# Altium footprint library USB_C_mid_mount.PcbLib: 1 footprints
Each footprint in its own frame and in the unit in brackets; x right, y up, seen from the top. Pads: shape width x height; smd on the part's side, far side on the other; paste and mask are expansions set on the pad; w line width, h text height; cw(c..) or ccw(c..) is an arc to the next point about the centre after c.
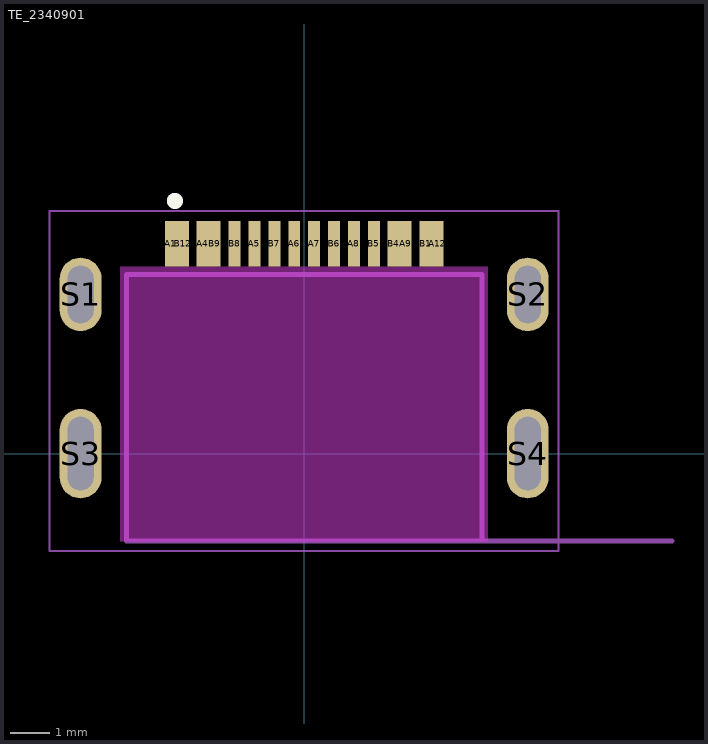
[diagram p0: the footprint, top view; thin cyan lines are the x and y axes]

## TE_2340901 [mm]
height 1.58
pads (20):
  rect 0.3x1.15 smd: A1(-3.35,5.275) A4(-2.55,5.275) A5(-1.25,5.275) A6(-0.25,5.275) A7(0.25,5.275) A8(1.25,5.275) A9(2.55,5.275) A12(3.35,5.275) B1(3.05,5.275) B4(2.25,5.275) B5(1.75,5.275) B6(0.75,5.275) B7(-0.75,5.275) B8(-1.75,5.275) B9(-2.25,5.275) B12(-3.05,5.275)
  oval 1.05x1.85 hole 0.65 slot 1.45 at 90 deg: S1(-5.62,4) S2(5.62,4)
  oval 1.05x2.25 hole 0.65 slot 1.85 at 90 deg: S3(-5.62,0) S4(5.62,0)
Top Overlay:
  circle w0.2: c-3.25,6.35 r0.1
Keep-Out Layer:
  board cut-out: -4.62,-2.2 -4.62,4.7 4.62,4.7 4.62,-2.2
Mechanical 13:
  circle w0.2: c-3.25,6.35 r0.1
  lines w0.127: 9.25,-2.2 4.47,-2.2 ; 4.47,-2.2 4.47,4.5 -4.47,4.5 -4.47,-2.2 4.47,-2.2
  text "PCB EDGE" at 6.5,-2 h1.02
Mechanical 15:
  lines w0.05: -6.395,-2.45 6.395,-2.45 6.395,6.1 -6.395,6.1 -6.395,-2.45
3D body "step_temp.STEP": height 1.58, standoff -1.58, extent -5.81,-2.3 5.73,5.25